# EAGLE library part INA168QPWRQ1 (library INA168QPWRQ1)
Automotive Grade, 60-V, High-Side, Current Output Current Shunt Monitor Source: Datasheet <http://www.ti.com/lit/gpn/ina168-q1>
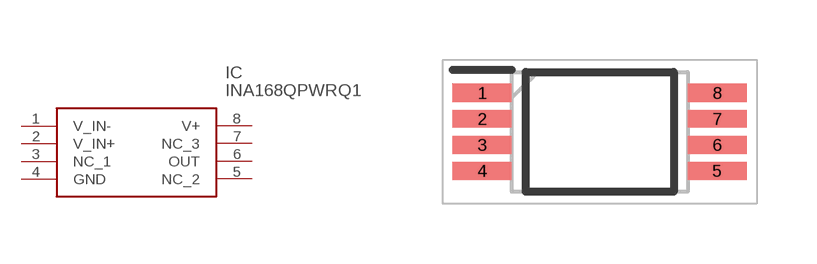
[diagram p0: symbol with the pads of SOP65P640X120-8N; footprint SOP65P640X120-8N]

Designator prefix IC

## INA168QPWRQ1 (Description: Automotive Grade, 60-V, High-Side, Current Output Current Shunt Monitor; Height: 1.2mm; Manufacturer_Name: Texas Instruments; Manufacturer_Part_Number: INA168QPWRQ1; Mouser_Part_Number: 595-INA168QPWRQ1; Mouser_Price-Stock: https://www.mouser.co.uk/ProductDetail/Texas-Instruments/INA168QPWRQ1?qs=rNOSrj6uCs1KJtjcAeXaAQ%3D%3D)  [SOP65P640X120-8N]
1  V_IN-
2  V_IN+
3  NC_1
4  GND
5  NC_2
6  OUT
7  NC_3
8  V+

## Footprint SOP65P640X120-8N (pad centres in mm)
PW0008A
smd 1.475 x 0.45: 1 -2.938,0.975; 2 -2.938,0.325; 3 -2.938,-0.325; 4 -2.938,-0.975; 5 2.938,-0.975; 6 2.938,-0.325; 7 2.938,0.325; 8 2.938,0.975